# EAGLE library part MAX4469 (library F030NG)
MAX4469 Low-Cost, Micropower, SC70/SOT23-8, Microphone Preamplifiers with Complete Shutdown
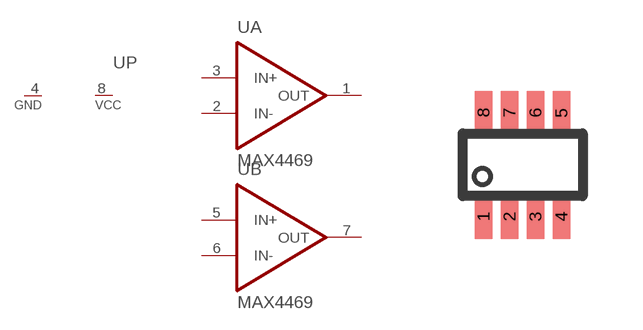
[diagram p62: symbol with the pads of SOT23-8; footprint SOT23-8]

Designator prefix U; gates P=1VCC_1GND A=MAX4469 B=MAX4469

## MAX4469EKA+T  [SOT23-8]
1  A:OUT  out
2  A:IN-  in
3  A:IN+  in
4  P:GND  pwr
5  B:IN+  in
6  B:IN-  in
7  B:OUT  out
8  P:VCC  pwr

## Footprint SOT23-8 (pad centres in mm)
SOT23-8 package for Maxim's MAX9813
smd 0.44 x 1.1: 1 -0.975,-1.3; 2 -0.325,-1.3; 3 0.325,-1.3; 4 0.975,-1.3; 5 0.975,1.3; 6 0.325,1.3; 7 -0.325,1.3; 8 -0.975,1.3